# Altium schematic symbol library D_IEC.SchLib: 18 symbols
Pins are listed as number, name and electrical type; pins without a type are passive.

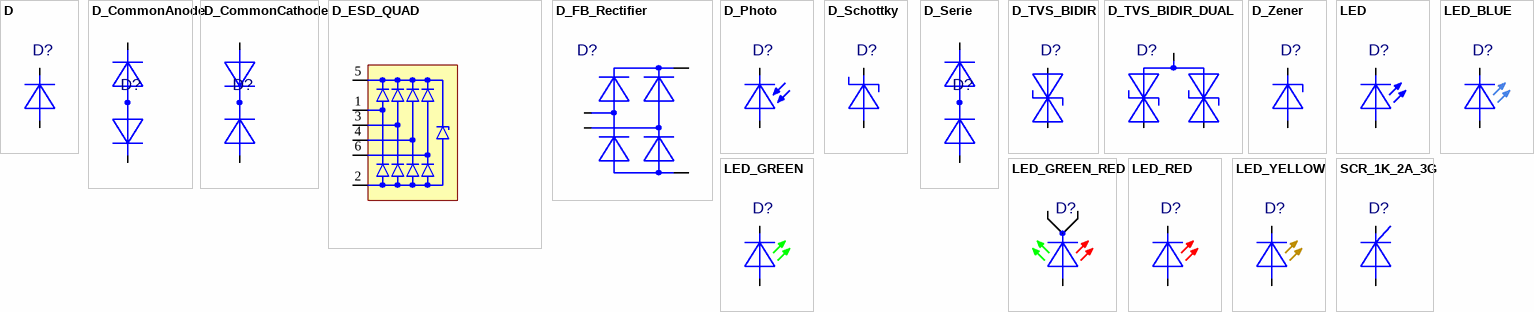
[diagram p0: symbols D to SCR_1K_2A_3G]

## D
designator D?
pins: 1 C, 2 A

## D_CommonAnode
designator D?
pins: 1 K1, 2 K2, 3 A1/A2

## D_CommonCathode
designator D?
pins: 1 A1, 2 A2, 3 K1/K2

## D_ESD_QUAD
designator D?
pins: 1, 2, 3, 4, 5, 6

## D_FB_Rectifier
designator D?
pins: 1 +, 2 -, 3 AC, 4 AC

## D_Photo
designator D?
pins: 1, 2

## D_Schottky
designator D?
pins: 1 C, 2 A

## D_Serie
designator D?
pins: 1 A1, 2 K2, 3 K1/A2

## D_TVS_BIDIR
designator D?
pins: 1, 2

## D_TVS_BIDIR_DUAL
designator D?
pins: 1, 2, 3

## D_Zener
designator D?
pins: 1 C, 2 A

## LED
designator D?
pins: 1 C, 2 A

## LED_BLUE
designator D?
pins: 1 C, 2 A

## LED_GREEN
designator D?
pins: 1 C, 2 A

## LED_GREEN_RED
designator D?
pins: 1, 2, 3

## LED_RED
designator D?
pins: 1 C, 2 A

## LED_YELLOW
designator D?
pins: 1 C, 2 A

## SCR_1K_2A_3G
designator D?
SCR, Thyristor / Pin 1: Cathode / Pin 2: Anode / Pin3: Gate
pins: 1 C, 2 A, 3 G